# Altium schematic symbol library MAX7219CWG+.SchLib: 1 symbol
Pins are listed as number, name and electrical type; pins without a type are passive.

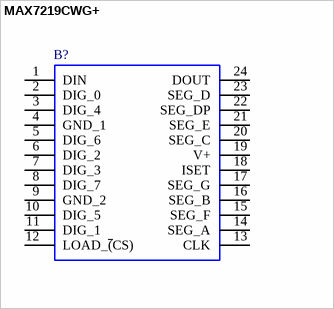
[diagram p0: symbol MAX7219CWG+]

## MAX7219CWG+
designator B?
MAX7219CWG+, LED Driver, 8-Digits 64-Segments, 5V, 24-Pin SOIC W; Manufacturer_Name: Maxim Integrated; Geometry.Height: 2.65mm; Manufacturer_Part_Number: MAX7219CWG+; Mouser Part Number: 700-MAX7219CWG; Mouser Price/Stock: https://www.mouser.co.uk/ProductDetail/Maxim-Integrated/MAX7219CWG%2b?qs=1THa7WoU59FAb2MozDF%2Fgw%3D%3D; Arrow Part Number: MAX7219CWG+; Arrow Price/Stock: https://www.arrow.com/en/products/max7219cwg/maxim-integrated?region=nac; Mouser Testing Part Number: *; Mouser Testing Price/Stock: *; Datasheet Link: http://datasheets.maximintegrated.com/en/ds/MAX7219-MAX7221.pdf
footprint SOIC127P1032X265-24N
pins: 1 DIN, 2 DIG_0, 3 DIG_4, 4 GND_1, 5 DIG_6, 6 DIG_2, 7 DIG_3, 8 DIG_7, 9 GND_2, 10 DIG_5, 11 DIG_1, 12 LOAD_~{(}CS), 13 CLK, 14 SEG_A, 15 SEG_F, 16 SEG_B, 17 SEG_G, 18 ISET, 19 V+, 20 SEG_C, 21 SEG_E, 22 SEG_DP, 23 SEG_D, 24 DOUT